# Altium footprint library DI_SOD323.PcbLib: 1 footprints
Each footprint in its own frame and in the unit in brackets; x right, y up, seen from the top. Pads: shape width x height; smd on the part's side, far side on the other; paste and mask are expansions set on the pad; w line width, h text height; cw(c..) or ccw(c..) is an arc to the next point about the centre after c.
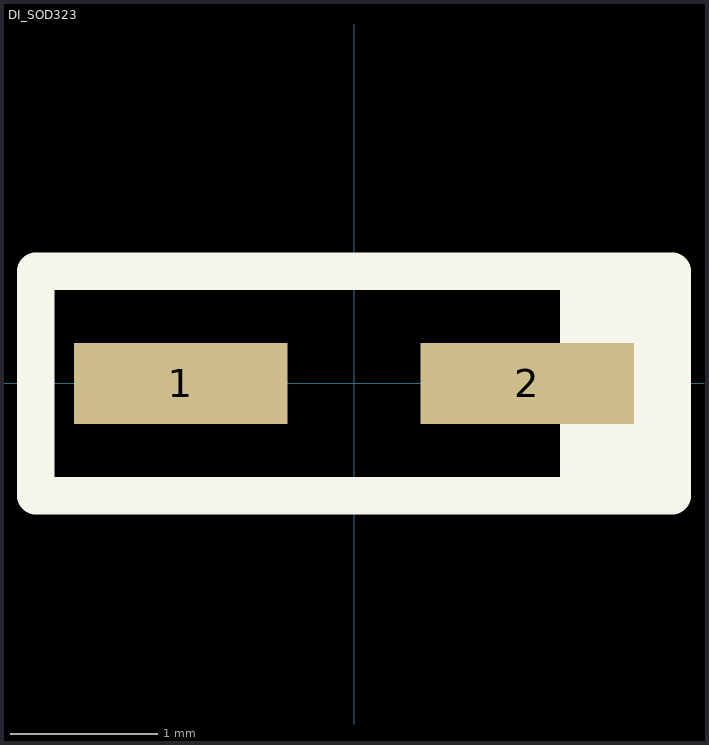
[diagram p0: the footprint, top view; thin cyan lines are the x and y axes]

## DI_SOD323 [mm] "SOD-323/SC-76; 2 Leads; Body 1.7 x 1.3 mm, (LxW)"
height 1.1
pads (2):
  rect 1.45x0.55 smd: 1(-1.175,0) 2(1.175,0)
Top Overlay:
  rectangle: 1.397,-0.762 2.159,0.889
  lines w0.254: -2.159,-0.762 2.159,-0.762 2.159,0.762 -2.159,0.762 -2.159,-0.762
3D body: height 1.1, standoff 0, extent -1.3,-0.675 1.3,0.675